# EAGLE library part 74HCT4040 (library di_ic)
12-stage binary/ripple COUNTER
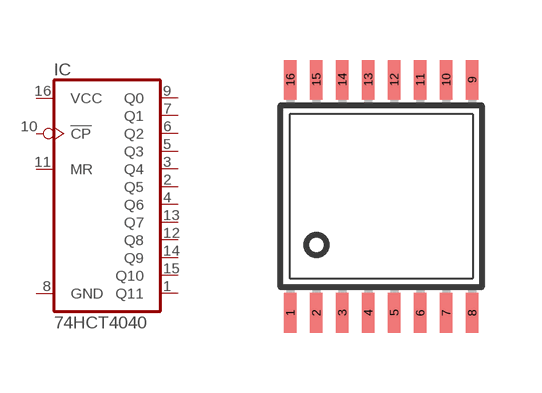
[diagram p1: symbol with the pads of TSSOP16; footprint TSSOP16]

Designator prefix IC

## 74HCT4040 (DIGIKEY: 296-26028-5-ND)  [TSSOP16]
1  Q11  out
2  Q5  out
3  Q4  out
4  Q6  out
5  Q3  out
6  Q2  out
7  Q1  out
8  GND  pwr
9  Q0  out
10  !CP  in
11  MR  in
12  Q8  out
13  Q7  out
14  Q9  out
15  Q10  out
16  VCC  pwr

## Footprint TSSOP16 (pad centres in mm)
smd 0.305 x 0.991: 1 -2.275,-2.918; 2 -1.625,-2.918; 3 -0.975,-2.918; 4 -0.325,-2.918; 5 0.325,-2.918; 6 0.975,-2.918; 7 1.625,-2.918; 8 2.275,-2.918; 9 2.275,2.918; 10 1.625,2.918; 11 0.975,2.918; 12 0.325,2.918; 13 -0.325,2.918; 14 -0.975,2.918; 15 -1.625,2.918; 16 -2.275,2.918